# EAGLE library part STM32F405RGT6 (library MyCMOSsensor)
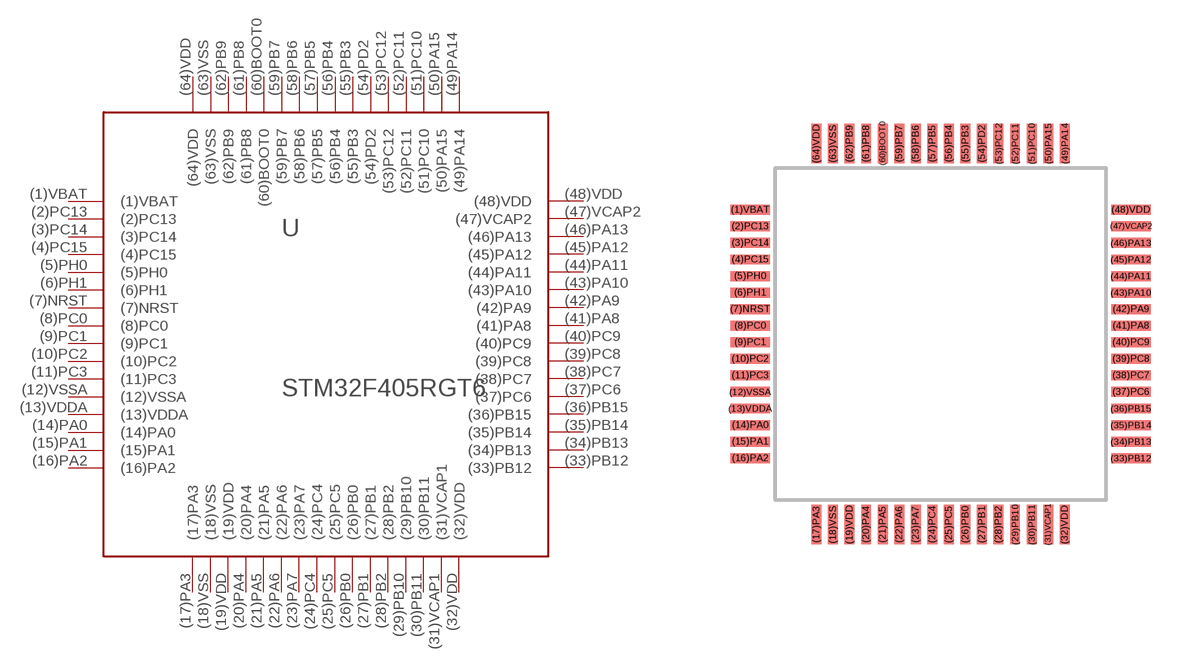
[diagram p1: symbol with the pads of STM32F405RGT6; footprint STM32F405RGT6]

Designator prefix -

## STM32F405RGT6  [STM32F405RGT6]
(1)VBAT  (1)VBAT
(2)PC13  (2)PC13
(3)PC14  (3)PC14
(4)PC15  (4)PC15
(5)PH0  (5)PH0
(6)PH1  (6)PH1
(7)NRST  (7)NRST
(8)PC0  (8)PC0
(9)PC1  (9)PC1
(10)PC2  (10)PC2
(11)PC3  (11)PC3
(12)VSSA  (12)VSSA
(13)VDDA  (13)VDDA
(14)PA0  (14)PA0
(15)PA1  (15)PA1
(16)PA2  (16)PA2
(17)PA3  (17)PA3
(18)VSS  (18)VSS
(19)VDD  (19)VDD
(20)PA4  (20)PA4
(21)PA5  (21)PA5
(22)PA6  (22)PA6
(23)PA7  (23)PA7
(24)PC4  (24)PC4
(25)PC5  (25)PC5
(26)PB0  (26)PB0
(27)PB1  (27)PB1
(28)PB2  (28)PB2
(29)PB10  (29)PB10
(30)PB11  (30)PB11
(31)VCAP1  (31)VCAP1
(32)VDD  (32)VDD
(33)PB12  (33)PB12
(34)PB13  (34)PB13
(35)PB14  (35)PB14
(36)PB15  (36)PB15
(37)PC6  (37)PC6
(38)PC7  (38)PC7
(39)PC8  (39)PC8
(40)PC9  (40)PC9
(41)PA8  (41)PA8
(42)PA9  (42)PA9
(43)PA10  (43)PA10
(44)PA11  (44)PA11
(45)PA12  (45)PA12
(46)PA13  (46)PA13
(47)VCAP2  (47)VCAP2
(48)VDD  (48)VDD
(49)PA14  (49)PA14
(50)PA15  (50)PA15
(51)PC10  (51)PC10
(52)PC11  (52)PC11
(53)PC12  (53)PC12
(54)PD2  (54)PD2
(55)PB3  (55)PB3
(56)PB4  (56)PB4
(57)PB5  (57)PB5
(58)PB6  (58)PB6
(59)PB7  (59)PB7
(60)BOOT0  (60)BOOT0
(61)PB8  (61)PB8
(62)PB9  (62)PB9
(63)VSS  (63)VSS
(64)VDD  (64)VDD

## Footprint STM32F405RGT6 (pad centres in mm)
smd 1.2 x 0.3: (1)VBAT -5.75,3.75; (2)PC13 -5.75,3.25; (3)PC14 -5.75,2.75; (4)PC15 -5.75,2.25; (5)PH0 -5.75,1.75; (6)PH1 -5.75,1.25; (7)NRST -5.75,0.75; (8)PC0 -5.75,0.25; (9)PC1 -5.75,-0.25; (10)PC2 -5.75,-0.75; (11)PC3 -5.75,-1.25; (12)VSSA -5.75,-1.75; (13)VDDA -5.75,-2.25; (14)PA0 -5.75,-2.75; (15)PA1 -5.75,-3.25; (16)PA2 -5.75,-3.75; (33)PB12 5.75,-3.75; (34)PB13 5.75,-3.25; (35)PB14 5.75,-2.75; (36)PB15 5.75,-2.25; (37)PC6 5.75,-1.75; (38)PC7 5.75,-1.25; (39)PC8 5.75,-0.75; (40)PC9 5.75,-0.25; (41)PA8 5.75,0.25; (42)PA9 5.75,0.75; (43)PA10 5.75,1.25; (44)PA11 5.75,1.75; (45)PA12 5.75,2.25; (46)PA13 5.75,2.75; (47)VCAP2 5.75,3.25; (48)VDD 5.75,3.75
smd 0.3 x 1.2: (17)PA3 -3.75,-5.75; (18)VSS -3.25,-5.75; (19)VDD -2.75,-5.75; (20)PA4 -2.25,-5.75; (21)PA5 -1.75,-5.75; (22)PA6 -1.25,-5.75; (23)PA7 -0.75,-5.75; (24)PC4 -0.25,-5.75; (25)PC5 0.25,-5.75; (26)PB0 0.75,-5.75; (27)PB1 1.25,-5.75; (28)PB2 1.75,-5.75; (29)PB10 2.25,-5.75; (30)PB11 2.75,-5.75; (31)VCAP1 3.25,-5.75; (32)VDD 3.75,-5.75; (49)PA14 3.75,5.75; (50)PA15 3.25,5.75; (51)PC10 2.75,5.75; (52)PC11 2.25,5.75; (53)PC12 1.75,5.75; (54)PD2 1.25,5.75; (55)PB3 0.75,5.75; (56)PB4 0.25,5.75; (57)PB5 -0.25,5.75; (58)PB6 -0.75,5.75; (59)PB7 -1.25,5.75; (60)BOOT0 -1.75,5.75; (61)PB8 -2.25,5.75; (62)PB9 -2.75,5.75; (63)VSS -3.25,5.75; (64)VDD -3.75,5.75